# Altium footprint library FUSC2214X100N.PcbLib: 1 footprints
Each footprint in its own frame and in the unit in brackets; x right, y up, seen from the top. Pads: shape width x height; smd on the part's side, far side on the other; paste and mask are expansions set on the pad; w line width, h text height; cw(c..) or ccw(c..) is an arc to the next point about the centre after c.
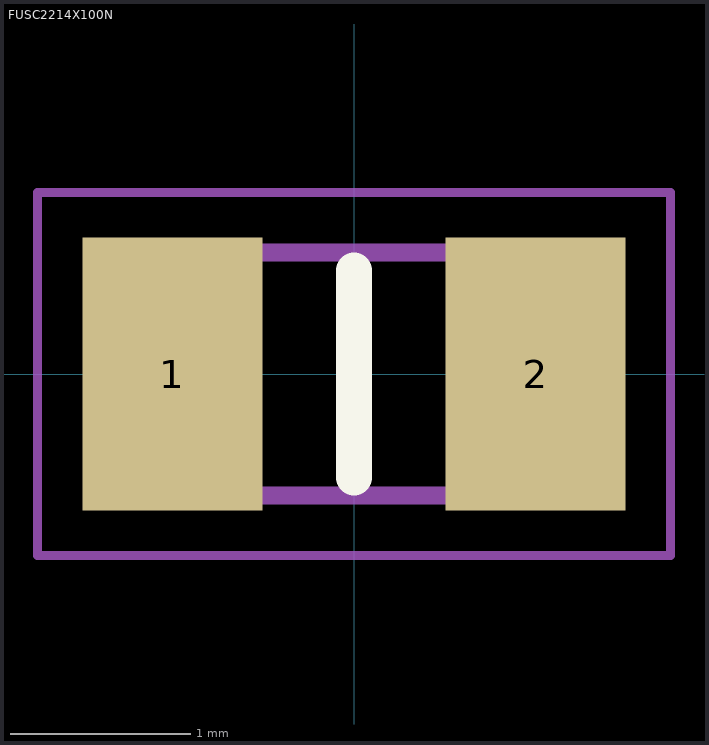
[diagram p0: the footprint, top view; thin cyan lines are the x and y axes]

## FUSC2214X100N [mm]
pads (2):
  rect 1x1.52 smd: 1(-1.01,0) 2(1.01,0)
Top Overlay:
  lines w0.2: 0,-0.575 0,0.575
Mechanical 15:
  lines w0.1: -1.075,-0.675 1.075,-0.675 1.075,0.675 -1.075,0.675 -1.075,-0.675
Mechanical 20:
  lines w0.05: -1.76,-1.01 1.76,-1.01 1.76,1.01 -1.76,1.01 -1.76,-1.01
3D body "0ZCK0020FF2G.stp": height 5.8, standoff -4.65, extent -10,-3.376 10,3.376